# EAGLE library part MAX11040K (library max11040k)
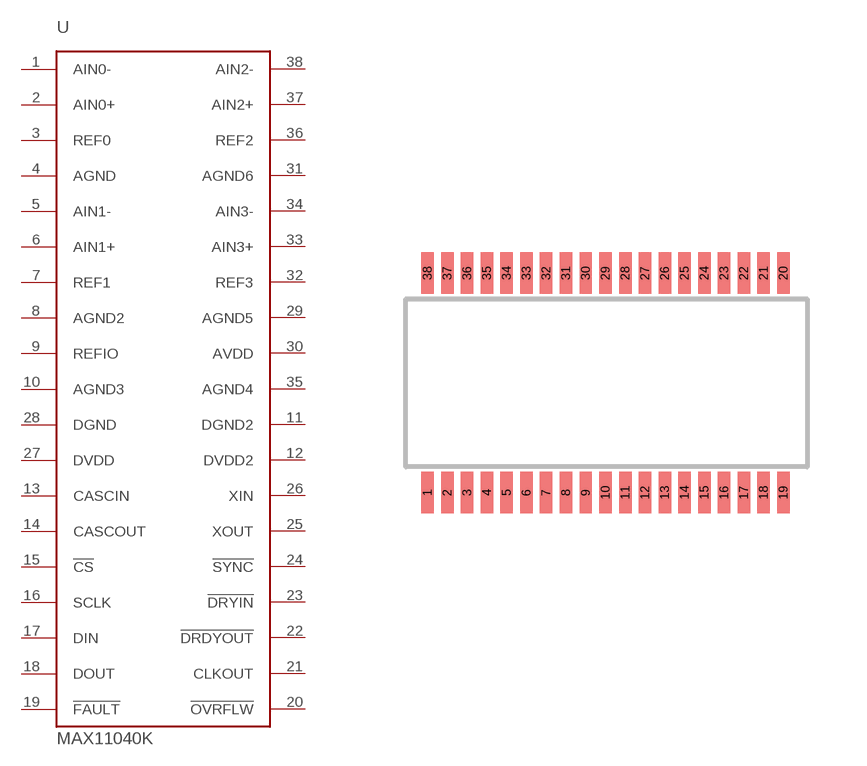
[diagram p0: symbol with the pads of TSSOP-38; footprint TSSOP-38]

Designator prefix -

## MAX11040K  [TSSOP-38]
1  AIN0-
2  AIN0+
3  REF0
4  AGND
5  AIN1-
6  AIN1+
7  REF1
8  AGND2
9  REFIO
10  AGND3
11  DGND2
12  DVDD2
13  CASCIN
14  CASCOUT
15  !CS
16  SCLK
17  DIN
18  DOUT
19  !FAULT
20  !OVRFLW
21  CLKOUT
22  !DRDYOUT
23  !DRYIN
24  !SYNC
25  XOUT
26  XIN
27  DVDD
28  DGND
29  AGND5
30  AVDD
31  AGND6
32  REF3
33  AIN3+
34  AIN3-
35  AGND4
36  REF2
37  AIN2+
38  AIN2-

## Footprint TSSOP-38 (pad centres in mm)
smd 0.315 x 1.05: 1 0,-5.55; 2 0.5,-5.55; 3 1,-5.55; 4 1.5,-5.55; 5 2,-5.55; 6 2.5,-5.55; 7 3,-5.55; 8 3.5,-5.55; 9 4,-5.55; 10 4.5,-5.55; 11 5,-5.55; 12 5.5,-5.55; 13 6,-5.55; 14 6.5,-5.55; 15 7,-5.55; 16 7.5,-5.55; 17 8,-5.55; 18 8.5,-5.55; 19 9,-5.55; 20 9,0; 21 8.5,0; 22 8,0; 23 7.5,0; 24 7,0; 25 6.5,0; 26 6,0; 27 5.5,0; 28 5,0; 29 4.5,0; 30 4,0; 31 3.5,0; 32 3,0; 33 2.5,0; 34 2,0; 35 1.5,0; 36 1,0; 37 0.5,0; 38 0,0